# EAGLE library part SKRVAAE010 (library alps)
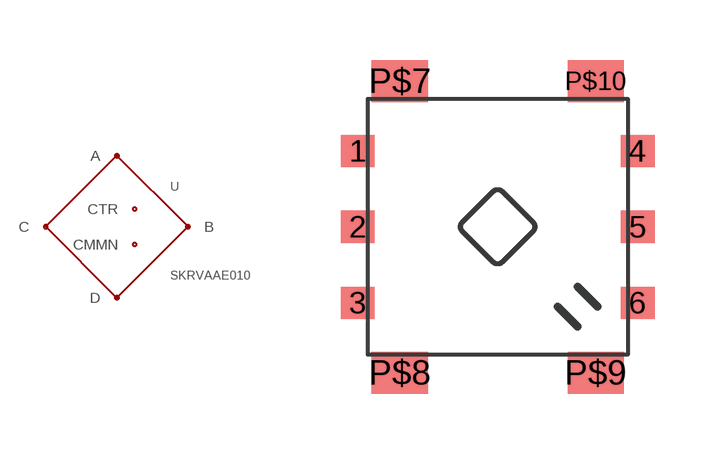
[diagram p0: symbol with the pads of SKRVAAE010; footprint SKRVAAE010]

Designator prefix -

## SKRVAAE010  [SKRVAAE010]
1  A
2  CTR
3  C
4  B
5  CMMN
6  D

## Footprint SKRVAAE010 (pad centres in mm)
smd 0.85 x 0.8: 1 -3.5,1.9; 2 -3.5,0; 3 -3.5,-1.9; 4 3.5,1.9; 5 3.5,0; 6 3.5,-1.9
smd 1.4 x 1.05: P$7 -2.45,3.65; P$8 -2.45,-3.65; P$9 2.45,-3.65; P$10 2.45,3.65